# EAGLE library part BQ24075RGTT (library BQ24075RGTT)
1.5A Li-Ion Charger, Power-Path VQFN16EP BQ24075RGTT, Battery Charge Controller, Lithium-Ion, 4500mA, 16-Pin QFN Source: Datasheet <http://www.ti.com/lit/ds/symlink/bq24075.pdf>
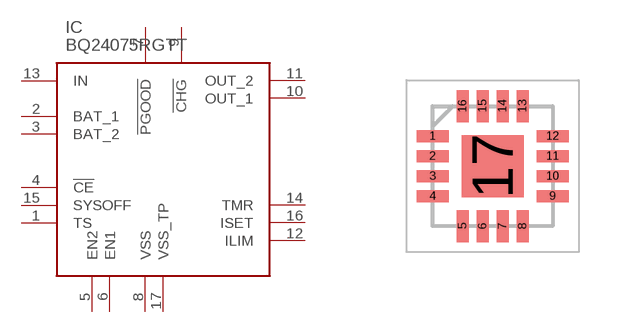
[diagram p0: symbol with the pads of QFN50P300X300X80-17N; footprint QFN50P300X300X80-17N]

Designator prefix IC

## BQ24075RGTT (ARROW_PART_NUMBER: BQ24075RGTT; ARROW_PRICE/STOCK: https://www.arrow.com/en/products/bq24075rgtt/texas-instruments; DESCRIPTION: 1.5A Li-Ion Charger, Power-Path VQFN16EP BQ24075RGTT, Battery Charge Controller, Lithium-Ion, 4500mA, 16-Pin QFN; HEIGHT: 0.8mm; MANUFACTURER_NAME: Texas Instruments; MANUFACTURER_PART_NUMBER: BQ24075RGTT; RS_PART_NUMBER: 8175815P; RS_PRICE/STOCK: http://uk.rs-online.com/web/p/products/8175815P)  [QFN50P300X300X80-17N]
1  TS
2  BAT_1
3  BAT_2
4  !CE
5  EN2
6  EN1
7  !PGOOD
8  VSS  pwr
9  !CHG
10  OUT_1  out
11  OUT_2  out
12  ILIM
13  IN  in
14  TMR
15  SYSOFF
16  ISET
17  VSS_TP  pwr

## Footprint QFN50P300X300X80-17N (pad centres in mm)
RGT (S-PVQFN-N16)
smd 0.8 x 0.3: 1 -1.5,0.75; 2 -1.5,0.25; 3 -1.5,-0.25; 4 -1.5,-0.75; 9 1.5,-0.75; 10 1.5,-0.25; 11 1.5,0.25; 12 1.5,0.75
smd 0.3 x 0.8: 5 -0.75,-1.5; 6 -0.25,-1.5; 7 0.25,-1.5; 8 0.75,-1.5; 13 0.75,1.5; 14 0.25,1.5; 15 -0.25,1.5; 16 -0.75,1.5
smd 1.55 x 1.55: 17 0,0